# EAGLE library part LT1113CS8PBF (library BBB_ADS1271_front_panel)
Dual Low Noise,Precision, JFET Input Op Amp
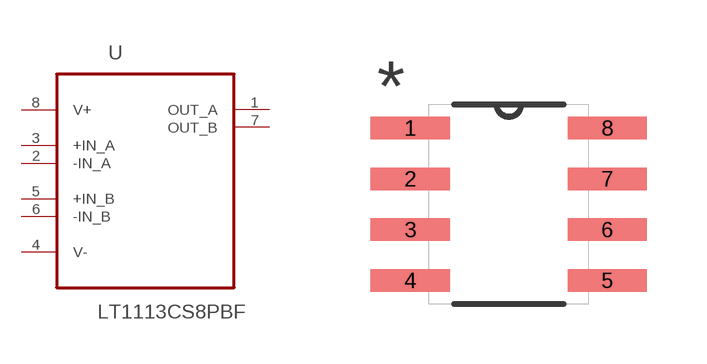
[diagram p2: symbol with the pads of SOIC127P600X175-8N; footprint SOIC127P600X175-8N]

Designator prefix U

## LT1113CS8PBF (MPN: LT1113CS8#PBF; OC_FARNELL: 1503417; OC_NEWARK: 57M1747; PACKAGE: SOIC-8; SUPPLIER: Linear Technology)  [SOIC127P600X175-8N]
1  OUT_A  out
2  -IN_A  in
3  +IN_A  in
4  V-  pwr
5  +IN_B  in
6  -IN_B  in
7  OUT_B  out
8  V+  pwr

## Footprint SOIC127P600X175-8N (pad centres in mm)
smd 1.981 x 0.559: 1 -2.464,1.905; 2 -2.464,0.635; 3 -2.464,-0.635; 4 -2.464,-1.905; 5 2.464,-1.905; 6 2.464,-0.635; 7 2.464,0.635; 8 2.464,1.905